# Altium schematic symbol library Filter.SchLib: 48 symbols
Pins are listed as number, name and electrical type; pins without a type are passive.

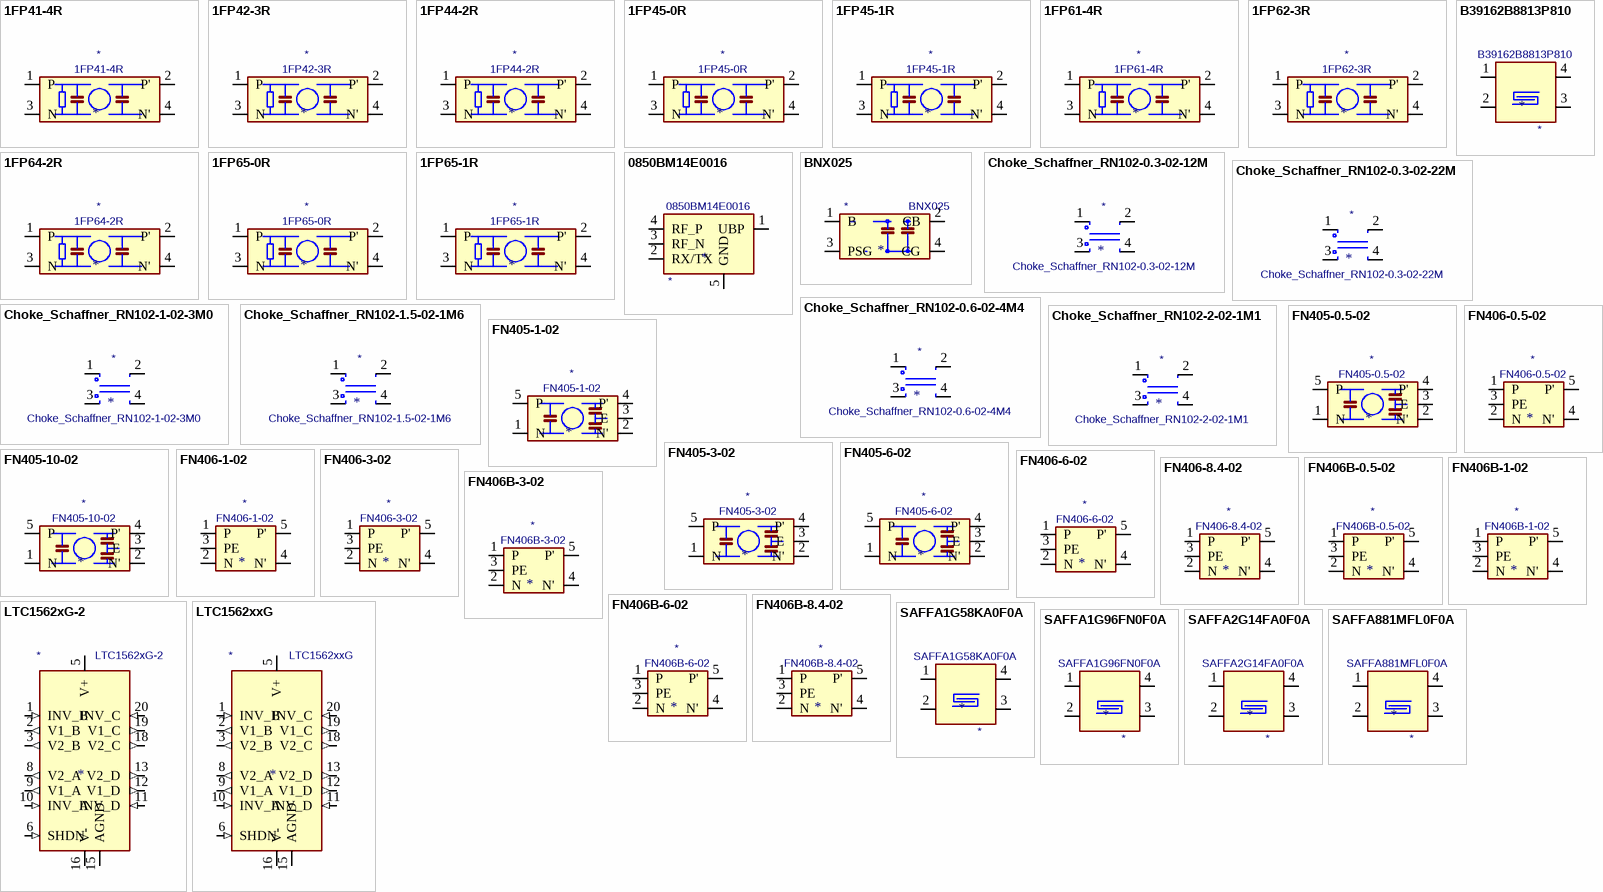
[diagram p0: symbols 1FP41-4R to SAFFA881MFL0F0A]

## 1FP41-4R
designator *  value 1FP41-4R
ki_keywords: EMI; ki_description: 4A, 250VAC, 50/60Hz line filter; ki_fp_filters: Filter*FILTERCON*1FPxx*; Footprint: Filter:Filter_FILTERCON_1FPxx; Supplier: https://filtercon.com.pl/wp-content/uploads/2019/07/Karta-katalogowa-FP-12-1.pdf
footprint Filter_FILTERCON_1FPxx
pins: 1 P, 2 P', 3 N, 4 N'

## 1FP42-3R
designator *  value 1FP42-3R
ki_keywords: EMI; ki_description: 3A, 250VAC, 50/60Hz line filter; ki_fp_filters: Filter*FILTERCON*1FPxx*; Footprint: Filter:Filter_FILTERCON_1FPxx; Supplier: https://filtercon.com.pl/wp-content/uploads/2019/07/Karta-katalogowa-FP-12-1.pdf
footprint Filter_FILTERCON_1FPxx
pins: 1 P, 2 P', 3 N, 4 N'

## 1FP44-2R
designator *  value 1FP44-2R
ki_keywords: EMI; ki_description: 2A, 250VAC, 50/60Hz line filter; ki_fp_filters: Filter*FILTERCON*1FPxx*; Footprint: Filter:Filter_FILTERCON_1FPxx; Supplier: https://filtercon.com.pl/wp-content/uploads/2019/07/Karta-katalogowa-FP-12-1.pdf
footprint Filter_FILTERCON_1FPxx
pins: 1 P, 2 P', 3 N, 4 N'

## 1FP45-0R
designator *  value 1FP45-0R
ki_keywords: EMI; ki_description: 0.5A, 250VAC, 50/60Hz line filter; ki_fp_filters: Filter*FILTERCON*1FPxx*; Footprint: Filter:Filter_FILTERCON_1FPxx; Supplier: https://filtercon.com.pl/wp-content/uploads/2019/07/Karta-katalogowa-FP-12-1.pdf
footprint Filter_FILTERCON_1FPxx
pins: 1 P, 2 P', 3 N, 4 N'

## 1FP45-1R
designator *  value 1FP45-1R
ki_keywords: EMI; ki_description: 1A, 250VAC, 50/60Hz line filter; ki_fp_filters: Filter*FILTERCON*1FPxx*; Footprint: Filter:Filter_FILTERCON_1FPxx; Supplier: https://filtercon.com.pl/wp-content/uploads/2019/07/Karta-katalogowa-FP-12-1.pdf
footprint Filter_FILTERCON_1FPxx
pins: 1 P, 2 P', 3 N, 4 N'

## 1FP61-4R
designator *  value 1FP61-4R
ki_keywords: EMI; ki_description: 4A, 250VAC, 50/60Hz line filter; ki_fp_filters: Filter*FILTERCON*1FPxx*; Footprint: Filter:Filter_FILTERCON_1FPxx; Supplier: https://filtercon.com.pl/wp-content/uploads/2019/07/Karta-katalogowa-FP-12-1.pdf
footprint Filter_FILTERCON_1FPxx
pins: 1 P, 2 P', 3 N, 4 N'

## 1FP62-3R
designator *  value 1FP62-3R
ki_keywords: EMI; ki_description: 3A, 250VAC, 50/60Hz line filter; ki_fp_filters: Filter*FILTERCON*1FPxx*; Footprint: Filter:Filter_FILTERCON_1FPxx; Supplier: https://filtercon.com.pl/wp-content/uploads/2019/07/Karta-katalogowa-FP-12-1.pdf
footprint Filter_FILTERCON_1FPxx
pins: 1 P, 2 P', 3 N, 4 N'

## 1FP64-2R
designator *  value 1FP64-2R
ki_keywords: EMI; ki_description: 2A, 250VAC, 50/60Hz line filter; ki_fp_filters: Filter*FILTERCON*1FPxx*; Footprint: Filter:Filter_FILTERCON_1FPxx; Supplier: https://filtercon.com.pl/wp-content/uploads/2019/07/Karta-katalogowa-FP-12-1.pdf
footprint Filter_FILTERCON_1FPxx
pins: 1 P, 2 P', 3 N, 4 N'

## 1FP65-0R
designator *  value 1FP65-0R
ki_keywords: EMI; ki_description: 0.5A, 250VAC, 50/60Hz line filter; ki_fp_filters: Filter*FILTERCON*1FPxx*; Footprint: Filter:Filter_FILTERCON_1FPxx; Supplier: https://filtercon.com.pl/wp-content/uploads/2019/07/Karta-katalogowa-FP-12-1.pdf
footprint Filter_FILTERCON_1FPxx
pins: 1 P, 2 P', 3 N, 4 N'

## 1FP65-1R
designator *  value 1FP65-1R
ki_keywords: EMI; ki_description: 1A, 250VAC, 50/60Hz line filter; ki_fp_filters: Filter*FILTERCON*1FPxx*; Footprint: Filter:Filter_FILTERCON_1FPxx; Supplier: https://filtercon.com.pl/wp-content/uploads/2019/07/Karta-katalogowa-FP-12-1.pdf
footprint Filter_FILTERCON_1FPxx
pins: 1 P, 2 P', 3 N, 4 N'

## 0850BM14E0016
designator *  value 0850BM14E0016
ki_keywords: Sub-GHz Balun; ki_description: Sub-GHz Impedance Matched Balun + LPF integrated Passive; ki_fp_filters: Balun*Johanson*1.6x0.8mm*; Footprint: RF_Converter:Balun_Johanson_1.6x0.8mm; Supplier: https://www.johansontechnology.com/datasheets/0850BM14E0016/0850BM14E0016.pdf
footprint Balun_Johanson_1.6x0.8mm
pins: 1 UBP, 2 RX/TX, 3 RF_N, 4 RF_P, 5 GND (power), 6 GND hidden

## B39162B8813P810
designator *  value B39162B8813P810
ki_keywords: SAW filter; ki_description: 1582.47MHz SAW filter, SMD 1109; ki_fp_filters: Filter*1109*1.1x0.9mm*; Footprint: Filter:Filter_1109-5_1.1x0.9mm; Supplier: https://product.tdk.com/search-template/en/documents/data_sheet/40/ds/mc/B9482.pdf
footprint Filter_1109-5_1.1x0.9mm
pins: 1, 2, 3, 4, 5 hidden

## BNX025
designator *  value BNX025
ki_keywords: EMI Filter SMD Murata; ki_description: EMI Filter SMD, Murata BNX025; ki_fp_filters: Filter*Murata*BNX025*; Footprint: Filter:Filter_Murata_BNX025; Supplier: https://www.murata.com/en-us/products/productdetail.aspx?cate=luNoiseSupprFilteBlockType&partno=BNX025H01%23
footprint Filter_Murata_BNX025
pins: 1 B, 2 CB, 3 PSG, 4 CG

## Choke_Schaffner_RN102-0.3-02-12M
designator *  value Choke_Schaffner_RN102-0.3-02-12M
ki_keywords: common-mode common mode choke powerline power line filter; ki_description: Common mode choke, 300mA, 300VAC, 12mH, 1.1 ohm, RN-102; ki_fp_filters: Choke*Schaffner*RN102*; Footprint: Inductor_THT:Choke_Schaffner_RN102-04-14.0x14.0mm; Supplier: https://www.schaffner.com/products/download/product/datasheet/rn-series-common-mode-chokes-new/
footprint Choke_Schaffner_RN102-04-14.0x14.0mm
pins: 1, 2, 3, 4

## Choke_Schaffner_RN102-0.3-02-22M
designator *  value Choke_Schaffner_RN102-0.3-02-22M
ki_keywords: common-mode common mode choke powerline power line filter; ki_description: Common mode choke, 300mA, 300VAC, 22mH, 1.3 ohm, RN-102; ki_fp_filters: Choke*Schaffner*RN102*; Footprint: Inductor_THT:Choke_Schaffner_RN102-04-14.0x14.0mm; Supplier: https://www.schaffner.com/products/download/product/datasheet/rn-series-common-mode-chokes-new/
footprint Choke_Schaffner_RN102-04-14.0x14.0mm
pins: 1, 2, 3, 4

## Choke_Schaffner_RN102-0.6-02-4M4
designator *  value Choke_Schaffner_RN102-0.6-02-4M4
ki_keywords: common-mode common mode choke powerline power line filter; ki_description: Common mode choke, 600mA, 300VAC, 4.4mH, 380mohm, RN-102; ki_fp_filters: Choke*Schaffner*RN102*; Footprint: Inductor_THT:Choke_Schaffner_RN102-04-14.0x14.0mm; Supplier: https://www.schaffner.com/products/download/product/datasheet/rn-series-common-mode-chokes-new/
footprint Choke_Schaffner_RN102-04-14.0x14.0mm
pins: 1, 2, 3, 4

## Choke_Schaffner_RN102-1-02-3M0
designator *  value Choke_Schaffner_RN102-1-02-3M0
ki_keywords: common-mode common mode choke powerline power line filter; ki_description: Common mode choke, 1A, 300VAC, 3mH, 210mohm, RN-102; ki_fp_filters: Choke*Schaffner*RN102*; Footprint: Inductor_THT:Choke_Schaffner_RN102-04-14.0x14.0mm; Supplier: https://www.schaffner.com/products/download/product/datasheet/rn-series-common-mode-chokes-new/
footprint Choke_Schaffner_RN102-04-14.0x14.0mm
pins: 1, 2, 3, 4

## Choke_Schaffner_RN102-1.5-02-1M6
designator *  value Choke_Schaffner_RN102-1.5-02-1M6
ki_keywords: common-mode common mode choke powerline power line filter; ki_description: Common mode choke, 1.5A, 300VAC, 1.6mH, 94mohm, RN-102; ki_fp_filters: Choke*Schaffner*RN102*; Footprint: Inductor_THT:Choke_Schaffner_RN102-04-14.0x14.0mm; Supplier: https://www.schaffner.com/products/download/product/datasheet/rn-series-common-mode-chokes-new/
footprint Choke_Schaffner_RN102-04-14.0x14.0mm
pins: 1, 2, 3, 4

## Choke_Schaffner_RN102-2-02-1M1
designator *  value Choke_Schaffner_RN102-2-02-1M1
ki_keywords: common-mode common mode choke powerline power line filter; ki_description: Common mode choke, 2A, 300VAC, 1.1mH, 70mohm, RN-102; ki_fp_filters: Choke*Schaffner*RN102*; Footprint: Inductor_THT:Choke_Schaffner_RN102-04-14.0x14.0mm; Supplier: https://www.schaffner.com/products/download/product/datasheet/rn-series-common-mode-chokes-new/
footprint Choke_Schaffner_RN102-04-14.0x14.0mm
pins: 1, 2, 3, 4

## FN405-0.5-02
designator *  value FN405-0.5-02
ki_keywords: EMI; ki_description: 0.5A, 250VAC, 50/60Hz line filter; ki_fp_filters: Filter*Schaffner*FN405*; Footprint: Filter:Filter_Schaffner_FN405; Supplier: https://www.schaffner.com/de/produkte/download/product/datasheet/fn-405-pcb-mounting-filter/
footprint Filter_Schaffner_FN405
pins: 1 N, 2 N', 3 E, 4 P', 5 P

## FN405-1-02
designator *  value FN405-1-02
ki_keywords: EMI; ki_description: 1A, 250VAC, 50/60Hz line filter; ki_fp_filters: Filter*Schaffner*FN405*; Footprint: Filter:Filter_Schaffner_FN405; Supplier: https://www.schaffner.com/de/produkte/download/product/datasheet/fn-405-pcb-mounting-filter/
footprint Filter_Schaffner_FN405
pins: 1 N, 2 N', 3 E, 4 P', 5 P

## FN405-3-02
designator *  value FN405-3-02
ki_keywords: EMI; ki_description: 3A, 250VAC, 50/60Hz line filter; ki_fp_filters: Filter*Schaffner*FN405*; Footprint: Filter:Filter_Schaffner_FN405; Supplier: https://www.schaffner.com/de/produkte/download/product/datasheet/fn-405-pcb-mounting-filter/
footprint Filter_Schaffner_FN405
pins: 1 N, 2 N', 3 E, 4 P', 5 P

## FN405-6-02
designator *  value FN405-6-02
ki_keywords: EMI; ki_description: 6A, 250VAC, 50/60Hz line filter; ki_fp_filters: Filter*Schaffner*FN405*; Footprint: Filter:Filter_Schaffner_FN405; Supplier: https://www.schaffner.com/de/produkte/download/product/datasheet/fn-405-pcb-mounting-filter/
footprint Filter_Schaffner_FN405
pins: 1 N, 2 N', 3 E, 4 P', 5 P

## FN405-10-02
designator *  value FN405-10-02
ki_keywords: EMI; ki_description: 10A, 250VAC, 50/60Hz line filter; ki_fp_filters: Filter*Schaffner*FN405*; Footprint: Filter:Filter_Schaffner_FN405; Supplier: https://www.schaffner.com/de/produkte/download/product/datasheet/fn-405-pcb-mounting-filter/
footprint Filter_Schaffner_FN405
pins: 1 N, 2 N', 3 E, 4 P', 5 P

## FN406-0.5-02
designator *  value FN406-0.5-02
ki_keywords: EMI mains; ki_description: 0.5A ultra compact EMI Filter; ki_fp_filters: Filter*Schaffner*FN406*; Footprint: Filter:Filter_Schaffner_FN406; Supplier: https://www.schaffner.com/products/download/product/datasheet/fn-406-ultra-compact-emc-filter/
footprint Filter_Schaffner_FN406
pins: 1 P, 2 N, 3 PE, 4 N', 5 P'

## FN406-1-02
designator *  value FN406-1-02
ki_keywords: EMI mains; ki_description: 1A ultra compact EMI Filter; ki_fp_filters: Filter*Schaffner*FN406*; Footprint: Filter:Filter_Schaffner_FN406; Supplier: https://www.schaffner.com/products/download/product/datasheet/fn-406-ultra-compact-emc-filter/
footprint Filter_Schaffner_FN406
pins: 1 P, 2 N, 3 PE, 4 N', 5 P'

## FN406-3-02
designator *  value FN406-3-02
ki_keywords: EMI mains; ki_description: 3A ultra compact EMI Filter; ki_fp_filters: Filter*Schaffner*FN406*; Footprint: Filter:Filter_Schaffner_FN406; Supplier: https://www.schaffner.com/products/download/product/datasheet/fn-406-ultra-compact-emc-filter/
footprint Filter_Schaffner_FN406
pins: 1 P, 2 N, 3 PE, 4 N', 5 P'

## FN406-6-02
designator *  value FN406-6-02
ki_keywords: EMI mains; ki_description: 6A ultra compact EMI Filter; ki_fp_filters: Filter*Schaffner*FN406*; Footprint: Filter:Filter_Schaffner_FN406; Supplier: https://www.schaffner.com/products/download/product/datasheet/fn-406-ultra-compact-emc-filter/
footprint Filter_Schaffner_FN406
pins: 1 P, 2 N, 3 PE, 4 N', 5 P'

## FN406-8.4-02
designator *  value FN406-8.4-02
ki_keywords: EMI mains; ki_description: 8.4A ultra compact EMI Filter; ki_fp_filters: Filter*Schaffner*FN406*; Footprint: Filter:Filter_Schaffner_FN406; Supplier: https://www.schaffner.com/products/download/product/datasheet/fn-406-ultra-compact-emc-filter/
footprint Filter_Schaffner_FN406
pins: 1 P, 2 N, 3 PE, 4 N', 5 P'

## FN406B-0.5-02
designator *  value FN406B-0.5-02
ki_keywords: EMI mains; ki_description: 0.5A ultra compact EMI Filter, medical version; ki_fp_filters: Filter*Schaffner*FN406*; Footprint: Filter:Filter_Schaffner_FN406; Supplier: https://www.schaffner.com/products/download/product/datasheet/fn-406-ultra-compact-emc-filter/
footprint Filter_Schaffner_FN406
pins: 1 P, 2 N, 3 PE, 4 N', 5 P'

## FN406B-1-02
designator *  value FN406B-1-02
ki_keywords: EMI mains; ki_description: 1A ultra compact EMI Filter, medical version; ki_fp_filters: Filter*Schaffner*FN406*; Footprint: Filter:Filter_Schaffner_FN406; Supplier: https://www.schaffner.com/products/download/product/datasheet/fn-406-ultra-compact-emc-filter/
footprint Filter_Schaffner_FN406
pins: 1 P, 2 N, 3 PE, 4 N', 5 P'

## FN406B-3-02
designator *  value FN406B-3-02
ki_keywords: EMI mains; ki_description: 3A ultra compact EMI Filter, medical version; ki_fp_filters: Filter*Schaffner*FN406*; Footprint: Filter:Filter_Schaffner_FN406; Supplier: https://www.schaffner.com/products/download/product/datasheet/fn-406-ultra-compact-emc-filter/
footprint Filter_Schaffner_FN406
pins: 1 P, 2 N, 3 PE, 4 N', 5 P'

## FN406B-6-02
designator *  value FN406B-6-02
ki_keywords: EMI mains; ki_description: 6A ultra compact EMI Filter, medical version; ki_fp_filters: Filter*Schaffner*FN406*; Footprint: Filter:Filter_Schaffner_FN406; Supplier: https://www.schaffner.com/products/download/product/datasheet/fn-406-ultra-compact-emc-filter/
footprint Filter_Schaffner_FN406
pins: 1 P, 2 N, 3 PE, 4 N', 5 P'

## FN406B-8.4-02
designator *  value FN406B-8.4-02
ki_keywords: EMI mains; ki_description: 8.4A ultra compact EMI Filter, medical version; ki_fp_filters: Filter*Schaffner*FN406*; Footprint: Filter:Filter_Schaffner_FN406; Supplier: https://www.schaffner.com/products/download/product/datasheet/fn-406-ultra-compact-emc-filter/
footprint Filter_Schaffner_FN406
pins: 1 P, 2 N, 3 PE, 4 N', 5 P'

## LTC1562xG-2
designator *  value LTC1562xG-2
ki_keywords: filter opamp quad; ki_description: Active RC Quad Universal Filter, 20kHz to 300kHz, Low Noise, Low Distortion, SSOP-20; ki_fp_filters: SSOP*5.3x7.2mm*P0.65mm*; Footprint: Package_SO:SSOP-20_5.3x7.2mm_P0.65mm; Supplier: https://www.analog.com/media/en/technical-documentation/data-sheets/15622fa.pdf
footprint SSOP-20_5.3x7.2mm_P0.65mm
pins: 1 INV_B (in), 2 V1_B (out), 3 V2_B (out), 4 V- hidden, 5 V+ (power), 6 SHDN (in), 7 V- hidden, 8 V2_A (out), 9 V1_A (out), 10 INV_A (in), 11 INV_D (in), 12 V1_D (out), 13 V2_D (out), 14 V- hidden, 15 AGND (power), 16 V- (power), 17 V- hidden, 18 V2_C (out), 19 V1_C (out), 20 INV_C (in)

## LTC1562xxG
designator *  value LTC1562xxG
ki_keywords: filter opamp quad; ki_description: Active RC Quad Universal Filter, 10kHz to 150kHz, Low Noise, Low Distortion, SSOP-20; ki_fp_filters: SSOP*5.3x7.2mm*P0.65mm*; Footprint: Package_SO:SSOP-20_5.3x7.2mm_P0.65mm; Supplier: https://www.analog.com/media/en/technical-documentation/data-sheets/1562fa.pdf
footprint SSOP-20_5.3x7.2mm_P0.65mm
pins: 1 INV_B (in), 2 V1_B (out), 3 V2_B (out), 4 V- hidden, 5 V+ (power), 6 SHDN (in), 7 V- hidden, 8 V2_A (out), 9 V1_A (out), 10 INV_A (in), 11 INV_D (in), 12 V1_D (out), 13 V2_D (out), 14 V- hidden, 15 AGND (power), 16 V- (power), 17 V- hidden, 18 V2_C (out), 19 V1_C (out), 20 INV_C (in)

## SAFFA1G58KA0F0A
designator *  value SAFFA1G58KA0F0A
ki_keywords: SAW filter; ki_description: Murata 1575.42/1602MHz SAW filter, SMD 1411; ki_fp_filters: Filter*1411*1.4x1.1mm*; Footprint: Filter:Filter_1411-5_1.4x1.1mm; Supplier: https://www.murata.com/~/media/webrenewal/support/library/catalog/products/filter/rf/p73e.ashx?la=en
footprint Filter_1411-5_1.4x1.1mm
pins: 1, 2, 3, 4, 5 hidden

## SAFFA1G96FN0F0A
designator *  value SAFFA1G96FN0F0A
ki_keywords: SAW filter; ki_description: Murata 1960MHz SAW filter, SMD 1411; ki_fp_filters: Filter*1411*1.4x1.1mm*; Footprint: Filter:Filter_1411-5_1.4x1.1mm; Supplier: https://www.murata.com/~/media/webrenewal/support/library/catalog/products/filter/rf/p73e.ashx?la=en
footprint Filter_1411-5_1.4x1.1mm
pins: 1, 2, 3, 4, 5 hidden

## SAFFA2G14FA0F0A
designator *  value SAFFA2G14FA0F0A
ki_keywords: SAW filter; ki_description: Murata 2140MHz SAW filter, SMD 1411; ki_fp_filters: Filter*1411*1.4x1.1mm*; Footprint: Filter:Filter_1411-5_1.4x1.1mm; Supplier: https://www.murata.com/~/media/webrenewal/support/library/catalog/products/filter/rf/p73e.ashx?la=en
footprint Filter_1411-5_1.4x1.1mm
pins: 1, 2, 3, 4, 5 hidden

## SAFFA881MFL0F0A
designator *  value SAFFA881MFL0F0A
ki_keywords: SAW filter; ki_description: Murata 881.5MHz SAW filter, SMD 1411; ki_fp_filters: Filter*1411*1.4x1.1mm*; Footprint: Filter:Filter_1411-5_1.4x1.1mm; Supplier: https://www.murata.com/~/media/webrenewal/support/library/catalog/products/filter/rf/p73e.ashx?la=en
footprint Filter_1411-5_1.4x1.1mm
pins: 1, 2, 3, 4, 5 hidden

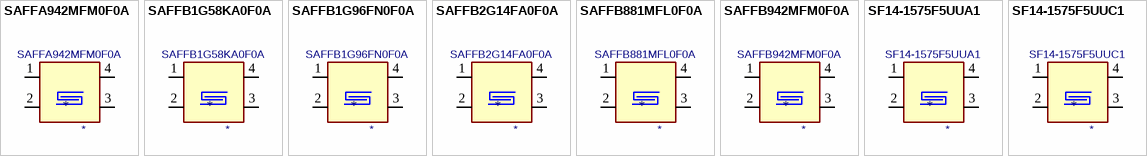
[diagram p1: symbols SAFFA942MFM0F0A to SF14-1575F5UUC1]

## SAFFA942MFM0F0A
designator *  value SAFFA942MFM0F0A
ki_keywords: SAW filter; ki_description: Murata 942.5MHz SAW filter, SMD 1411; ki_fp_filters: Filter*1411*1.4x1.1mm*; Footprint: Filter:Filter_1411-5_1.4x1.1mm; Supplier: https://www.murata.com/~/media/webrenewal/support/library/catalog/products/filter/rf/p73e.ashx?la=en
footprint Filter_1411-5_1.4x1.1mm
pins: 1, 2, 3, 4, 5 hidden

## SAFFB1G58KA0F0A
designator *  value SAFFB1G58KA0F0A
ki_keywords: SAW filter; ki_description: Murata 1575.42/1602MHz SAW filter, SMD 1109; ki_fp_filters: Filter*1109*1.1x0.9mm*; Footprint: Filter:Filter_1109-5_1.1x0.9mm; Supplier: https://www.murata.com/~/media/webrenewal/support/library/catalog/products/filter/rf/p73e.ashx?la=en
footprint Filter_1109-5_1.1x0.9mm
pins: 1, 2, 3, 4, 5 hidden

## SAFFB1G96FN0F0A
designator *  value SAFFB1G96FN0F0A
ki_keywords: SAW filter; ki_description: Murata 1960MHz SAW filter, SMD 1109; ki_fp_filters: Filter*1109*1.1x0.9mm*; Footprint: Filter:Filter_1109-5_1.1x0.9mm; Supplier: https://www.murata.com/~/media/webrenewal/support/library/catalog/products/filter/rf/p73e.ashx?la=en
footprint Filter_1109-5_1.1x0.9mm
pins: 1, 2, 3, 4, 5 hidden

## SAFFB2G14FA0F0A
designator *  value SAFFB2G14FA0F0A
ki_keywords: SAW filter; ki_description: Murata 2140MHz SAW filter, SMD 1109; ki_fp_filters: Filter*1109*1.1x0.9mm*; Footprint: Filter:Filter_1109-5_1.1x0.9mm; Supplier: https://www.murata.com/~/media/webrenewal/support/library/catalog/products/filter/rf/p73e.ashx?la=en
footprint Filter_1109-5_1.1x0.9mm
pins: 1, 2, 3, 4, 5 hidden

## SAFFB881MFL0F0A
designator *  value SAFFB881MFL0F0A
ki_keywords: SAW filter; ki_description: Murata 881.5MHz SAW filter, SMD 1109; ki_fp_filters: Filter*1109*1.1x0.9mm*; Footprint: Filter:Filter_1109-5_1.1x0.9mm; Supplier: https://www.murata.com/~/media/webrenewal/support/library/catalog/products/filter/rf/p73e.ashx?la=en
footprint Filter_1109-5_1.1x0.9mm
pins: 1, 2, 3, 4, 5 hidden

## SAFFB942MFM0F0A
designator *  value SAFFB942MFM0F0A
ki_keywords: SAW filter; ki_description: Murata 942.5MHz SAW filter, SMD 1109; ki_fp_filters: Filter*1109*1.1x0.9mm*; Footprint: Filter:Filter_1109-5_1.1x0.9mm; Supplier: https://www.murata.com/~/media/webrenewal/support/library/catalog/products/filter/rf/p73e.ashx?la=en
footprint Filter_1109-5_1.1x0.9mm
pins: 1, 2, 3, 4, 5 hidden

## SF14-1575F5UUA1
designator *  value SF14-1575F5UUA1
ki_keywords: SAW filter; ki_description: 1575MHz SAW filter, SMD 1411; ki_fp_filters: Filter*1411*1.4x1.1mm*; Footprint: Filter:Filter_1411-5_1.4x1.1mm; Supplier: https://global.kyocera.com/prdct/electro/product/pdf/sf14_gnss.pdf
footprint Filter_1411-5_1.4x1.1mm
pins: 1, 2, 3, 4, 5 hidden

## SF14-1575F5UUC1
designator *  value SF14-1575F5UUC1
ki_keywords: SAW filter; ki_description: 1575MHz SAW filter, SMD 1411; ki_fp_filters: Filter*1411*1.4x1.1mm*; Footprint: Filter:Filter_1411-5_1.4x1.1mm; Supplier: https://global.kyocera.com/prdct/electro/product/pdf/sf14_gnss.pdf
footprint Filter_1411-5_1.4x1.1mm
pins: 1, 2, 3, 4, 5 hidden